# Altium footprint library TIDA-00555_E2.PcbLib: 37 footprints (part 3 of 3)
Each footprint in its own frame and in the unit in brackets; x right, y up, seen from the top. Pads: shape width x height; smd on the part's side, far side on the other; paste and mask are expansions set on the pad; w line width, h text height; cw(c..) or ccw(c..) is an arc to the next point about the centre after c.
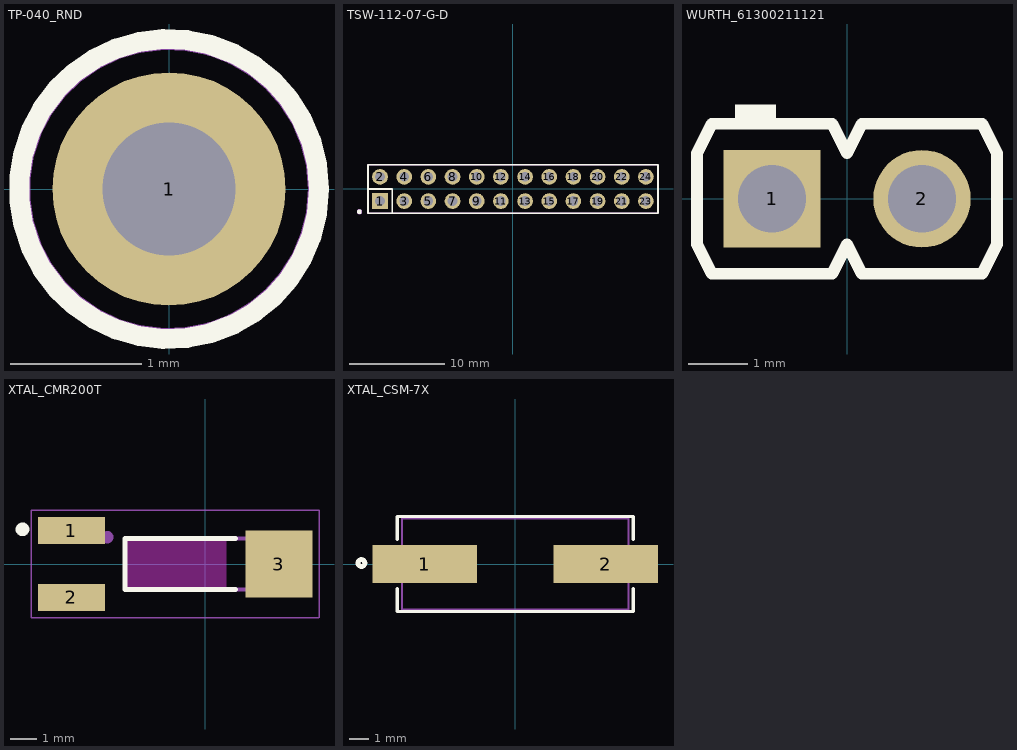
[diagram p2: the footprints below, top view; thin cyan lines are the x and y axes]

## TP-040_RND [mil]
pads (1):
  round 70 / inner round 62 / far side round 62 hole 40: 1(0,0)
Top Overlay:
  circle w6: c0,0 r45
Mechanical 5:
  circle w6: c0,0 r44.72
  text ".Designator" at -95,40 h30

## TSW-112-07-G-D [mm] "Samtec 100mil, 2x12, 230 mil above insulator"
height 8.382
pads (24):
  rect 1.65x1.65 hole 1.016 mask+0.102: 1(-13.97,-1.27)
  round 1.65 hole 1.016 mask+0.102: 2(-13.97,1.27) 3(-11.43,-1.27) 4(-11.43,1.27) 5(-8.89,-1.27) 6(-8.89,1.27) 7(-6.35,-1.27) 8(-6.35,1.27) 9(-3.81,-1.27) 10(-3.81,1.27) 11(-1.27,-1.27) 12(-1.27,1.27) 13(1.27,-1.27) 14(1.27,1.27) 15(3.81,-1.27) 16(3.81,1.27) 17(6.35,-1.27) 18(6.35,1.27) 19(8.89,-1.27) 20(8.89,1.27) 21(11.43,-1.27) 22(11.43,1.27) 23(13.97,-1.27) 24(13.97,1.27)
Top Overlay:
  circle w0.25: c-16.14,-2.4 r0.125
  lines w0.178: -15.24,0 -12.7,0 -12.7,-2.54 ; -15.24,-2.54 15.24,-2.54 15.24,2.54 -15.24,2.54 -15.24,-2.54
Mechanical 5:
  circle w0.254: c-16.129,-2.388 r0.155
  rectangle: -14.478,-1.778 -13.462,-0.762
  lines w0.152: -15.24,-2.54 -15.24,2.54 15.24,2.54 15.24,-2.54 -15.24,-2.54
  text ".Designator" at 0.254,-0.254 h0.76
3D body: height 8.38, standoff -2.54, extent -15.24,-2.54 15.24,2.54

## WURTH_61300211121 [mm] "Header, 2.54mm, 2x1, TH"
height 8.89
pads (2):
  rect 1.65x1.65 hole 1.15: 1(-1.27,0)
  round 1.65 hole 1.15: 2(1.27,0)
Top Overlay:
  rectangle: -1.9,1.27 -1.2,1.6
  lines w0.2: -2.54,-0.77 -2.29,-1.27 -0.25,-1.27 0,-0.77 0.25,-1.27 2.29,-1.27 2.54,-0.77 2.54,0.77 2.29,1.27 0.25,1.27 0,0.77 -0.25,1.27 -2.29,1.27 -2.54,0.77 -2.54,-0.77
Mechanical 5:
  lines w0.1: -2.54,-0.77 -2.54,0.77 -2.29,1.27 -0.25,1.27 0,0.77 0.25,1.27 2.29,1.27 2.54,0.77 2.54,-0.77 2.29,-1.27 0.25,-1.27 0,-0.77 -0.25,-1.27 -2.29,-1.27 -2.54,-0.77
  text ".Designator" at -1.524,-0.508 h0.76
3D body: height 8.54, standoff -3, extent -2.54,-1.27 2.54,1.27

## XTAL_CMR200T [mm] "XTAL, SMD, 3-PIN"
height 2
pads (3):
  rect 2.5x1 smd mask+0.102: 1(-5,1.25) 2(-5,-1.25)
  rect 2.5x2.5 smd mask+0.102: 3(2.75,0)
Top Layer keep-out:
  rectangle: -3.048,-0.946 0.785,0.954
Top Overlay:
  circle w0.254: c-6.833,1.295 r0.13
  lines w0.178: 1.125,-0.95 -3,-0.95 -3,0.95 1.125,0.95
  text ".Designator" at 4.849,-0.243 h1.02
Mechanical 5:
  circle w0.254: c-3.664,1.002 r0.105
  lines w0.152: -3,-0.95 -3,0.95 3,0.95 3,-0.95 -3,-0.95
  text ".Designator" at -0.254,-0.381 h0.76
Mechanical 15:
  lines w0.05: -6.5,-2 -6.5,2 4.25,2 4.25,-2 -6.5,-2
3D body: height 2, standoff 0, extent -3,-0.95 3,0.95

## XTAL_CSM-7X [mm] "ECS"
height 4.3
pads (2):
  rect 5.5x2 smd mask+0.102: 1(-4.75,0) 2(4.75,0)
Top Overlay:
  circle w0.254: c-8.077,0.051 r0.18
  lines w0.17: -6.2,-1.3 -6.2,-2.5 -3.4,-2.5 6.2,-2.5 6.2,-1.3 ; -6.2,1.3 -6.2,2.5 -3.4,2.5 6.2,2.5 6.2,1.3
Mechanical 5:
  circle w0.254: c-6.424,0.025 r0.13
  lines w0.1: -5.95,-2.4 5.95,-2.4 5.95,2.4 -5.95,2.4 -5.95,-2.4
  text ".Designator" at 0.711,0.102 h0.76
3D body: height 0.8, standoff 0, extent -5.949,-2.399 5.949,2.399
3D body: height 4.3, standoff 0.8, extent -5.16,-1.91 5.16,1.91